# Altium footprint library pcb_GasSensor.PcbLib: 46 footprints (part 2 of 3)
Each footprint in its own frame and in the unit in brackets; x right, y up, seen from the top. Pads: shape width x height; smd on the part's side, far side on the other; paste and mask are expansions set on the pad; w line width, h text height; cw(c..) or ccw(c..) is an arc to the next point about the centre after c.
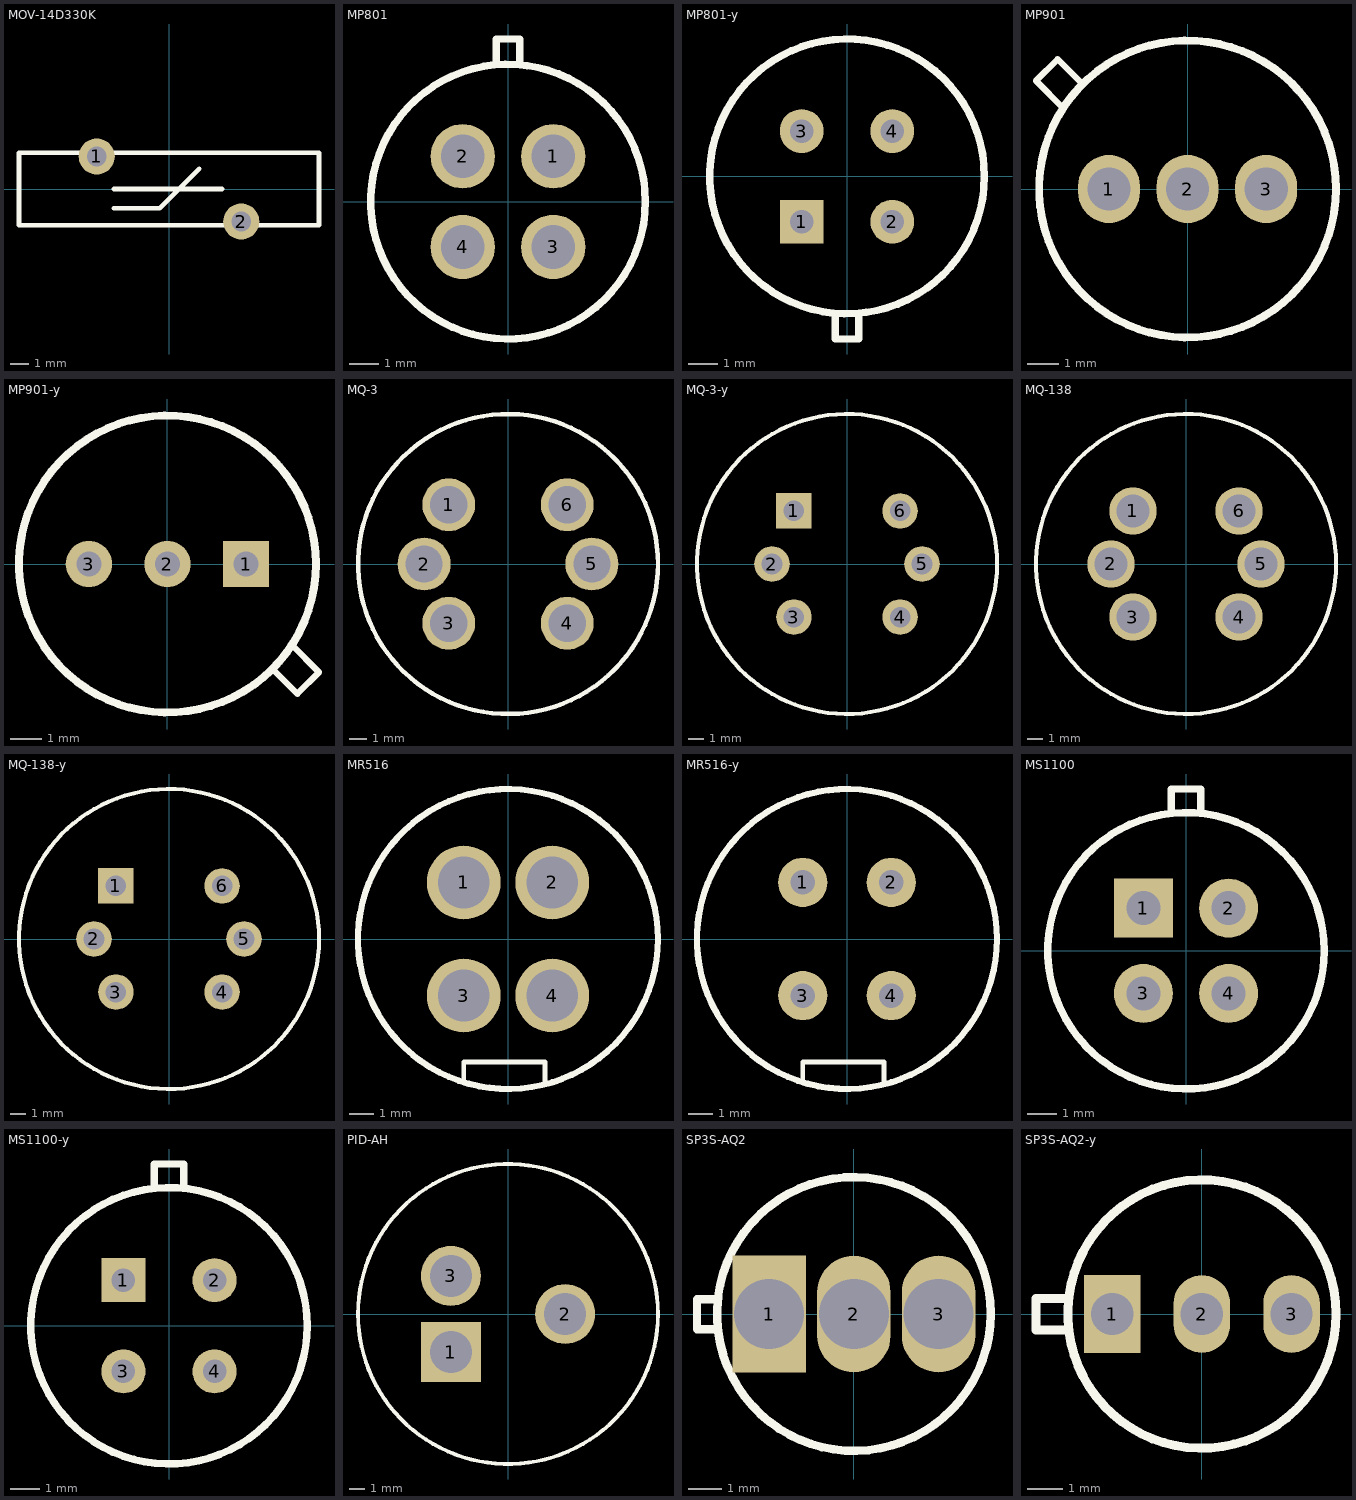
[diagram p1: the footprints below, top view; thin cyan lines are the x and y axes]

## MOV-14D330K [mm]
pads (2):
  round 2 hole 1.1 paste-2539.97 mask+0.051: 1(-4,1.8) 2(4,-1.8)
Top Overlay:
  lines w0.254: -3.048,-1.067 -0.508,-1.067 1.676,1.118 ; -3.048,0 2.946,0 ; -8.3,-2 -8.3,2 8.3,2 8.3,-2 -8.3,-2

## MP801 [mm]
pads (4):
  round 2.2 hole 1.5: 1(1.55,1.55) 2(-1.55,1.55) 3(1.55,-1.55) 4(-1.55,-1.55)
Top Overlay:
  circle w0.254: c0,0 r4.7
  lines w0.254: -0.4,4.763 -0.4,5.563 0.4,5.563 0.4,4.763
3D body "TGS2600--3DModel-STEP-56544.STEP": height 16.3, standoff -3, extent -4.6,-4.6 4.6,5

## MP801-y [mm]
pads (4):
  rect 1.5x1.5 hole 0.8: 1(-1.55,-1.55)
  round 1.5 hole 0.8: 2(1.55,-1.55) 3(-1.55,1.55) 4(1.55,1.55)
Top Overlay:
  circle w0.254: c0,0 r4.7
  lines w0.254: -0.4,-4.763 -0.4,-5.563 0.4,-5.563 0.4,-4.763
3D body "TGS2600--3DModel-STEP-56544.STEP": height 16.3, standoff -3, extent -4.6,-5 4.6,4.6

## MP901 [mm]
height 7.5
pads (3):
  oval 2x2.2 hole 1.4: 1(-2.54,0) 2(0,0) 3(2.54,0)
Top Overlay:
  circle w0.254: c0,0 r4.8
  lines w0.2: -4,2.6 -4.9,3.5 -4.2,4.2 -3.4,3.4 ; -3.6,3.2 -3.6,3.2

## MP901-y [mm]
height 7.5
pads (3):
  rect 1.5x1.5 hole 0.8: 1(2.54,0)
  round 1.5 hole 0.8: 2(0,0) 3(-2.54,0)
Top Overlay:
  circle w0.254: c0,0 r4.8
  lines w0.2: 3.4,-3.4 4.2,-4.2 4.9,-3.5 4,-2.6 ; 3.6,-3.2 3.6,-3.2

## MQ-3 [mm]
height 16
pads (6):
  round 3 hole 2.1: 1(-3.359,3.359) 2(-4.75,0) 3(-3.359,-3.359) 4(3.359,-3.359) 5(4.75,0) 6(3.359,3.359)
Top Overlay:
  circle w0.254: c0,0 r8.5
3D body "mq-7.stp": height 11.2, standoff -5.3, extent -8.4,-8.388 8.4,8.388

## MQ-3-y [mm]
height 16
pads (6):
  rect 2.25x2.25 hole 1.3: 1(-3.359,3.359)
  round 2.25 hole 1.3: 2(-4.75,0) 3(-3.359,-3.359) 4(3.359,-3.359) 5(4.75,0) 6(3.359,3.359)
Top Overlay:
  circle w0.254: c0,0 r9.5
3D body "mq-7.stp": height 11.2, standoff -5.3, extent -8.4,-8.388 8.4,8.388

## MQ-138 [mm]
height 16
pads (6):
  round 3 hole 2.1: 1(-3.359,3.359) 2(-4.75,0) 3(-3.359,-3.359) 4(3.359,-3.359) 5(4.75,0) 6(3.359,3.359)
Top Overlay:
  circle w0.254: c0,0 r9.5
3D body "MQ Gas Sensor.step": height 15, standoff -7, extent -9.815,-9.797 9.779,9.797

## MQ-138-y [mm]
height 16
pads (6):
  rect 2.25x2.25 hole 1.3: 1(-3.359,3.359)
  round 2.25 hole 1.3: 2(-4.75,0) 3(-3.359,-3.359) 4(3.359,-3.359) 5(4.75,0) 6(3.359,3.359)
Top Overlay:
  circle w0.254: c0,0 r9.5
3D body "MQ Gas Sensor.step": height 15, standoff -7, extent -9.815,-9.797 9.779,9.797

## MR516 [mm]
height 9
pads (4):
  round 3 hole 2.1: 1(-1.8,2.3) 2(1.8,2.3) 3(-1.8,-2.3) 4(1.8,-2.3)
Top Overlay:
  circle w0.254: c0,0 r6.1
  lines w0.2: -1.8,-5.8 -1.8,-5 1.5,-5 1.5,-5.9

## MR516-y [mm]
height 9
pads (4):
  round 2 hole 1: 1(-1.8,2.3) 2(1.8,2.3) 3(-1.8,-2.3) 4(1.8,-2.3)
Top Overlay:
  circle w0.254: c0,0 r6.1
  lines w0.2: -1.8,-5.8 -1.8,-5 1.5,-5 1.5,-5.9

## MS1100 [mm]
height 7
pads (4):
  rect 2x2 hole 1.15: 1(-1.45,1.45)
  round 2 hole 1.15: 2(1.45,1.45) 3(-1.45,-1.45) 4(1.45,-1.45)
Top Overlay:
  circle w0.254: c0,0 r4.7
  lines w0.254: -0.5,4.7 -0.5,5.5 0.5,5.5 0.5,4.7
3D body "TGS2600--3DModel-STEP-56544.STEP": height 16.3, standoff -3, extent -4.6,-4.6 4.6,5

## MS1100-y [mm]
height 7
pads (4):
  rect 1.5x1.5 hole 0.8: 1(-1.55,1.55)
  round 1.5 hole 0.8: 2(1.55,1.55) 3(-1.55,-1.55) 4(1.55,-1.55)
Top Overlay:
  circle w0.254: c0,0 r4.7
  lines w0.254: -0.5,4.7 -0.5,5.5 0.5,5.5 0.5,4.7
3D body "TGS2600--3DModel-STEP-56544.STEP": height 16.3, standoff -3, extent -4.6,-4.6 4.6,5

## PID-AH [mm]
height 17
pads (3):
  rect 4x4 hole 2.8: 1(-3.81,-2.54)
  round 4 hole 2.8: 2(3.81,0) 3(-3.81,2.54)
Top Overlay:
  circle w0.254: c0,0 r10
3D body "PID-AH2--3DModel-STEP-56544.STEP": height 16.5, standoff -4.6, extent -10,-10 10,10

## SP3S-AQ2 [mm]
height 8.4
pads (3):
  rect 2.2x3.5 hole 2.1: 1(-2.54,0)
  oval 2.2x3.5 hole 2.1: 2(0,0) 3(2.54,0)
Top Overlay:
  lines w0.254: -4.14,-0.458 -4.698,-0.458 -4.698,0.431 -4.698,0.436 -4.089,0.436 ; 4.1,0 cw(c0,0) 4.1,0.023

## SP3S-AQ2-y [mm]
height 8.4
pads (3):
  rect 1.6x2.2 hole 1.2: 1(-2.54,0)
  oval 1.6x2.2 hole 1.2: 2(0,0) 3(2.54,0)
Top Overlay:
  circle w0.254: c0,0 r3.8
  lines w0.254: -3.8,-0.458 -4.698,-0.458 -4.698,0.431 -4.698,0.436 -3.8,0.436